# Altium schematic symbol library PiezoControlBoard.SchLib: 33 symbols (part 1 of 2)
Pins are listed as number, name and electrical type; pins without a type are passive.

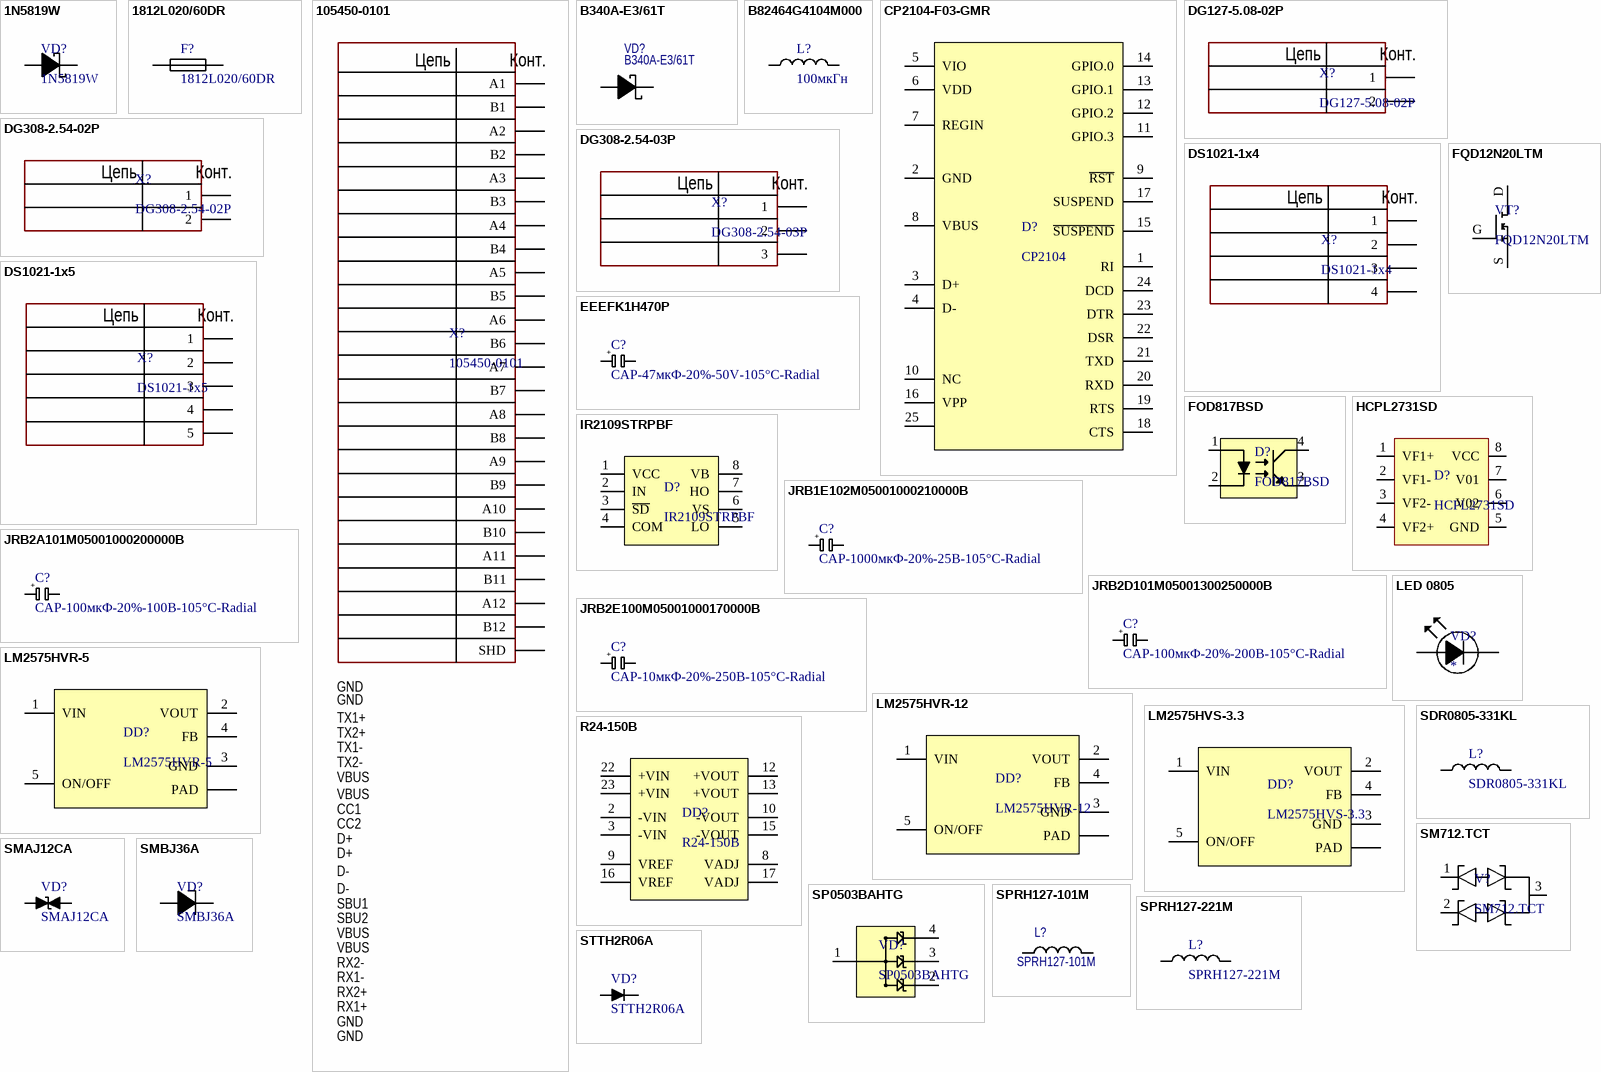
[diagram p0: symbols 1N5819W to STTH2R06A]

## 1N5819W
designator VD?
Диод Шоттки 40В 1А; Supplier 1: https://www.chipdip.ru/product/1n5819w
footprint SOD-123
pins: 1 A, 2 K

## 1812L020/60DR
designator F?
PTC Resettable Fuse 0.2A(hold) 0.4A(trip) 60VDC 40A 0.8W 0.02s 0.8Ohm SMD Solder Pad 1812 T/R; Manufacturer: Littelfuse; Approvals: TUV, cULus; Hold Current: 200mA; Maximum Resistance 1 Hour (R1max): 4.4Ω; Max Voltage Rating (DC): 30V; Minimum Resistance Initial (Rmin): 1.4Ω; Power Dissipation: 800mW; Time to Trip: 2s; Trip Current: 400mA; Working Voltage: 60V; Manufacturer Part Number: 1812L020/60DR; RoHS: Compliant; Category: PTC Resettable Fuses; Pricing 1: 1500=0,187, 3000=0,185, 6000=0,182, 22500=0,177 (USD); Case/Package: 1812; Case Code (Imperial): 1812; Case Code (Metric): 4532; Country of Origin: Taiwan; Export Control Classification Number (ECCN) Code: EAR99; Height: 1.25mm; Harmonized Tariff Schedule (HTS) Code: 8533.40.80.70; Introduction Date: 2012-08-07; Lead Free: Lead Free; Lifecycle Status: Production; Max Current Rating: 40A; Max Operating Temperature: 85°C; Min Operating Temperature: -40°C; Mount: Surface Mount; Number of Terminals: 2; Packaging: Tape & Reel (TR); REACH SVHC: Yes; Resistance: 1.4Ω; Termination: SMD/SMT; Width: 3.41mm; ComponentLink1URL: https://datasheet.octopart.com:443/1812L020-60DR-Littelfuse-datasheet-181956373.pdf?src-supplier=IHS; ComponentLink1Description: https://datasheet.octopart.com:443/1812L020-60DR-Littelfuse-datasheet-181956373.pdf?src-supplier=IHS; ComponentLink2URL: https://datasheet.octopart.com:443/1812L020-60DR-Littelfuse-datasheet-165518607.pdf?src-supplier=Farnell; ComponentLink2Description: https://datasheet.octopart.com:443/1812L020-60DR-Littelfuse-datasheet-165518607.pdf?src-supplier=Farnell; ComponentLink3URL: https://datasheet.octopart.com:443/1812L020-60DR-Littelfuse-datasheet-95953547.pdf?src-supplier=Farnell; ComponentLink3Description: https://datasheet.octopart.com:443/1812L020-60DR-Littelfuse-datasheet-95953547.pdf?src-supplier=Farnell; ComponentLink4URL: https://datasheet.octopart.com:443/1812L020-60DR-Littelfuse-datasheet-81917122.pdf?src-supplier=Farnell; ComponentLink4Description: https://datasheet.octopart.com:443/1812L020-60DR-Littelfuse-datasheet-81917122.pdf?src-supplier=Farnell; ComponentLink5URL: https://datasheet.octopart.com:443/1812L020-60DR-Littelfuse-datasheet-133510347.pdf?src-supplier=TME; ComponentLink5Description: https://datasheet.octopart.com:443/1812L020-60DR-Littelfuse-datasheet-133510347.pdf?src-supplier=TME; ComponentLink6URL: https://datasheet.octopart.com:443/1812L020-60DR-Littelfuse-datasheet-183575728.pdf?src-supplier=Sager+Electronics; ComponentLink6Description: https://datasheet.octopart.com:443/1812L020-60DR-Littelfuse-datasheet-183575728.pdf?src-supplier=Sager+Electronics; ComponentLink7URL: https://datasheet.octopart.com:443/1812L020-60DR-Littelfuse-datasheet-175882318.pdf?src-supplier=Sager+Electronics; ComponentLink7Description: https://datasheet.octopart.com:443/1812L020-60DR-Littelfuse-datasheet-175882318.pdf?src-supplier=Sager+Electronics; ComponentLink8URL: https://datasheet.octopart.com:443/1812L020-60DR-Littelfuse-datasheet-177174290.pdf?src-supplier=Burklin+Elektronik; ComponentLink8Description: https://datasheet.octopart.com:443/1812L020-60DR-Littelfuse-datasheet-177174290.pdf?src-supplier=Burklin+Elektronik; ComponentLink9URL: https://datasheet.octopart.com:443/1812L020-60DR-Littelfuse-datasheet-24577145.pdf?src-supplier=Future+Electronics; ComponentLink9Description: https://datasheet.octopart.com:443/1812L020-60DR-Littelfuse-datasheet-24577145.pdf?src-supplier=Future+Electronics; ComponentLink10URL: https://datasheet.octopart.com:443/1812L020-60DR-Littelfuse-datasheet-11773851.pdf?src-supplier=Fuses+Unlimited; ComponentLink10Description: https://datasheet.octopart.com:443/1812L020-60DR-Littelfuse-datasheet-11773851.pdf?src-supplier=Fuses+Unlimited; ComponentLink11URL: https://datasheet.octopart.com:443/1812L020-60DR-Littelfuse-datasheet-10288713.pdf?src-supplier=Fuses+Unlimited; ComponentLink11Description: https://datasheet.octopart.com:443/1812L020-60DR-Littelfuse-datasheet-10288713.pdf?src-supplier=Fuses+Unlimited; ComponentLink12URL: https://datasheet.octopart.com:443/1812L020-60DR-Littelfuse-datasheet-8764218.pdf?src-supplier=Fuses+Unlimited; ComponentLink12Description: https://datasheet.octopart.com:443/1812L020-60DR-Littelfuse-datasheet-8764218.pdf?src-supplier=Fuses+Unlimited; ComponentLink13URL: https://datasheet.octopart.com:443/1812L020-60DR-Littelfuse-datasheet-8701984.pdf?src-supplier=Fuses+Unlimited; ComponentLink13Description: https://datasheet.octopart.com:443/1812L020-60DR-Littelfuse-datasheet-8701984.pdf?src-supplier=Fuses+Unlimited; ComponentLink14URL: https://datasheet.octopart.com:443/1812L020-60DR-Littelfuse-datasheet-8499982.pdf?src-supplier=Fuses+Unlimited; ComponentLink14Description: https://datasheet.octopart.com:443/1812L020-60DR-Littelfuse-datasheet-8499982.pdf?src-supplier=Fuses+Unlimited; ComponentLink15URL: https://datasheet.octopart.com:443/1812L020-60DR-Littelfuse-datasheet-8330599.pdf?src-supplier=Fuses+Unlimited; ComponentLink15Description: https://datasheet.octopart.com:443/1812L020-60DR-Littelfuse-datasheet-8330599.pdf?src-supplier=Fuses+Unlimited; ComponentLink16URL: https://datasheet.octopart.com:443/1812L020-60DR-Littelfuse-datasheet-560439.pdf?src-supplier=Fuses+Unlimited; ComponentLink16Description: https://datasheet.octopart.com:443/1812L020-60DR-Littelfuse-datasheet-560439.pdf?src-supplier=Fuses+Unlimited; Supplier Part Number 1: 9134053; Supplier 1: https://www.chipdip.ru/product/1812l020-60dr-0.2a-60v-predohranitel-littelfuse-9000254948?from=similar_product_auto; Supplier: Future Electronics
footprint SMD-1812
pins: 1, 2

## 105450-0101
designator X?  B12: GND  B11: RX1+  A11: RX2+  B10: RX1-  A10: RX2-  B9: VBUS  B8: SBU2  A8: SBU1  B7: D-  B6: D+  B5: CC2  A5: CC1  B3: TX2-  A3: TX1-  B2: TX2+  A2: TX1+
USB Connector, 24 Contact(s), Female, Right Angle, Surface Mount Terminal, Receptacle; Manufacturer: Molex; Plating: 157ConductorMaterial; Number of Contacts: 24; Number of Ports: 1; USB Standard: USB 3.1; Mating Cycles: 10000; Shielding: Shielded; Number of Circuits: 24NUMBER; Voltage Rating: 30V; Pitch: 0.5mm; Supplier: Mouser; Supplier Part Number: 538-105450-0101; Manufacturer Part Number: 105450-0101; RoHS: Yes; Category: USB Connectors; Stock: 17652; Pricing: 1=2,38, 10=2,03, 50=2,03, 100=1,79, 1000=1,67, 10000=1,41 (USD); Mounting Technology: Surface Mount,Horizontal,Through Hole; Case/Package: 0101; Pins: 24; Contact Material: Copper Alloy; Contact Plating: Gold; Housing Material: Thermoplastic; Insulation Color: Black; Min Operating Temperature: -30°C; Max Operating Temperature: 85°C; Packaging: Tape and Reel; Connector Type: USB; Gender: Receptacle; Orientation: Right Angle; Termination: Solder; Features: Shielded; Series: -; Number of Rows: 2NUMBER; Length: 8.94mm; Height: 3.44mm; Flammability Rating: UL94 V-0; RoHS Compliant: Yes; Reach SVHC Compliant: Unknown; ComponentLink1URL: http://www.farnell.com/datasheets/2801634.pdf?src-supplier=Farnell; ComponentLink1Description: http://www.farnell.com/datasheets/2801634.pdf?src-supplier=Farnell; ComponentLink2URL: http://www.farnell.com/datasheets/2801634.pdf?src-supplier=Newark; ComponentLink2Description: http://www.farnell.com/datasheets/2801634.pdf?src-supplier=Newark; ComponentLink3URL: http://www.literature.molex.com/SQLImages/kelmscott/Molex/PDF_Images/987651-4081.PDF?src-supplier=Avnet; ComponentLink3Description: http://www.literature.molex.com/SQLImages/kelmscott/Molex/PDF_Images/987651-4081.PDF?src-supplier=Avnet; ComponentLink4URL: http://www.farnell.com/datasheets/2015275.pdf?src-supplier=Element14; ComponentLink4Description: http://www.farnell.com/datasheets/2015275.pdf?src-supplier=Element14; ComponentLink5URL: http://www.farnell.com/datasheets/2801634.pdf?src-supplier=Element14; ComponentLink5Description: http://www.farnell.com/datasheets/2801634.pdf?src-supplier=Element14; ComponentLink6URL: http://www.farnell.com/datasheets/2672741.pdf?src-supplier=Newark; ComponentLink6Description: http://www.farnell.com/datasheets/2672741.pdf?src-supplier=Newark; Supplier 1: https://www.chipdip.ru/product/105450-0101-molex; A12: GND; A9: VBUS; A7: D-; A6: D+; B4: VBUS; A4: VBUS; B1: GND; A1: GND
footprint USB-C
pins: 2 B2, A1, A2, A3, A4, A5, A6, A7, A8, A9, A10, A11, A12, B1, B3, B4, B5, B6, B7, B8, B9, B10, B11, B12, SHD
text: Цепь; Конт.

## B340A-E3/61T
designator VD?
Rectifier Diode, Schottky, 1 Phase, 1 Element, 3A, 40V V(RRM), Silicon, DO-214AC; Manufacturer: Vishay Semiconductors; Supplier: Avnet; Supplier Part Number: B340A-E3/61T; Manufacturer Part Number: B340A-E3/61T; RoHS: Yes; Category: Rectifier Diodes; Stock: 19800; Pricing: 3600=0,11, 7200=0,10732, 10800=0,10602, 18000=0,10476, 36000=0,10353 (USD); ComponentLink1URL: https://datasheet.ciiva.com/22685/1719678-22685665.pdf?src-supplier=Element14; ComponentLink1Description: https://datasheet.ciiva.com/22685/1719678-22685665.pdf?src-supplier=Element14; ComponentLink2URL: https://datasheet.ciiva.com/4245/b330la-4245394.pdf?src-supplier=Arrow+Electronics; ComponentLink2Description: https://datasheet.ciiva.com/4245/b330la-4245394.pdf?src-supplier=Arrow+Electronics; ComponentLink3URL: https://datasheet.ciiva.com/911/b330la-911044.pdf?src-supplier=Digikey; ComponentLink3Description: https://datasheet.ciiva.com/911/b330la-911044.pdf?src-supplier=Digikey; ComponentLink4URL: https://datasheet.ciiva.com/911/b330la-911045.pdf?src-supplier=Digikey; ComponentLink4Description: https://datasheet.ciiva.com/911/b330la-911045.pdf?src-supplier=Digikey; ComponentLink5URL: https://datasheet.ciiva.com/911/b330la-911046.pdf?src-supplier=Digikey; ComponentLink5Description: https://datasheet.ciiva.com/911/b330la-911046.pdf?src-supplier=Digikey; Supplier 1: https://www.chipdip.ru/product/b340a-e3-61t-2?from=suggest_product
footprint DO-214AC
pins: A, C

## B82464G4104M000
designator L?, comment 100мкГн
Inductor Power Shielded Wirewound 100uH 20% 100KHz Ferrite 1.05A 0.22Ohm DCR Automotive T/R; Manufacturer: EPCOS; Manufacturer Part Number: B82464G4104M000; DC Resistance (DCR): 220mΩ; Inductance: 100µH; Number of Circuits: 1; Saturation Current: 1.15A; Self Resonant Frequency: 6.5MHz; RoHS: Compliant; Category: Fixed Inductors; Stock 1: 363; Pricing 1: 1=1,09 (GBP); Case/Package: SMD/SMT; China RoHS: Compliant; Contact Plating: Tin; Core Material: Ferrite; Country of Origin: Germany; DC Current: 1.05A; Depth: 10.4mm; Export Control Classification Number (ECCN) Code: EAR99; Height: 4.8mm; Harmonized Tariff Schedule (HTS) Code: 8504.50.80.00; Inductance Tolerance: 20%; Introduction Date: 2002-08-13; Lead Free: Lead Free; Length: 10.4mm; Lifecycle Status: EOL; Max Current Rating: 1.05A; Max DC Current: 1.05A; Max Length: 10.4mm; Max Operating Temperature: 125°C; Max Width: 10.4mm; Military Standard: Not; Min Operating Temperature: -55°C; Mount: Surface Mount; Number of Pins: 2; Number of Terminals: 2; Packaging: Cut Tape; REACH SVHC: Yes; Resistance: 220mΩ; RMS Current (Irms): 1.05A; Schedule B: 8504500000, 8504500000|8504500000|8504500000|8504500000|8504500000; Test Frequency: 100kHz; Tolerance: 20%; Width: 10.4mm; ComponentLink1URL: https://datasheet.octopart.com:443/B82464G4104M000-EPCOS-datasheet-138895962.pdf?src-supplier=IHS; ComponentLink1Description: https://datasheet.octopart.com:443/B82464G4104M000-EPCOS-datasheet-138895962.pdf?src-supplier=IHS; ComponentLink2URL: https://datasheet.octopart.com:443/B82464G4104M000-EPCOS-datasheet-12510517.pdf?src-supplier=Newark; ComponentLink2Description: https://datasheet.octopart.com:443/B82464G4104M000-EPCOS-datasheet-12510517.pdf?src-supplier=Newark; ComponentLink3URL: https://datasheet.octopart.com:443/B82464G4104M000-EPCOS-datasheet-10671.pdf?src-supplier=Newark; ComponentLink3Description: https://datasheet.octopart.com:443/B82464G4104M000-EPCOS-datasheet-10671.pdf?src-supplier=Newark; ComponentLink4URL: https://datasheet.octopart.com:443/B82464G4104M000-EPCOS-datasheet-8324944.pdf?src-supplier=Future+Electronics; ComponentLink4Description: https://datasheet.octopart.com:443/B82464G4104M000-EPCOS-datasheet-8324944.pdf?src-supplier=Future+Electronics; ComponentLink5URL: https://datasheet.octopart.com:443/B82464G4104M000-EPCOS-datasheet-47871567.pdf?src-supplier=Future+Electronics; ComponentLink5Description: https://datasheet.octopart.com:443/B82464G4104M000-EPCOS-datasheet-47871567.pdf?src-supplier=Future+Electronics; ComponentLink6URL: https://datasheet.octopart.com:443/B82464G4104M000-EPCOS-datasheet-38579530.pdf?src-supplier=element14+APAC; ComponentLink6Description: https://datasheet.octopart.com:443/B82464G4104M000-EPCOS-datasheet-38579530.pdf?src-supplier=element14+APAC; ComponentLink7URL: https://datasheet.octopart.com:443/B82464G4104M-EPCOS-datasheet-714.pdf?src-supplier=TME; ComponentLink7Description: https://datasheet.octopart.com:443/B82464G4104M-EPCOS-datasheet-714.pdf?src-supplier=TME; ComponentLink8URL: https://datasheet.octopart.com:443/B82464G4104M-EPCOS-datasheet-519163.pdf?src-supplier=Farnell; ComponentLink8Description: https://datasheet.octopart.com:443/B82464G4104M-EPCOS-datasheet-519163.pdf?src-supplier=Farnell; ComponentLink9URL: https://datasheet.octopart.com:443/B82464G4104M-EPCOS-datasheet-499776.pdf?src-supplier=Farnell; ComponentLink9Description: https://datasheet.octopart.com:443/B82464G4104M-EPCOS-datasheet-499776.pdf?src-supplier=Farnell; ComponentLink10URL: https://datasheet.octopart.com:443/B82464-G4104-M-EPCOS-datasheet-550296.pdf?src-supplier=Verical; ComponentLink10Description: https://datasheet.octopart.com:443/B82464-G4104-M-EPCOS-datasheet-550296.pdf?src-supplier=Verical; Supplier Part Number 1: 4960669; Supplier 1: https://www.chipdip.ru/product/b82464g4104m-100mkgn-1.05a-10x10-katushka-epcos-759264303?from=visited_product; Supplier: RS
footprint IND_10.4X10.4
pins: 1, 2

## CP2104-F03-GMR
designator D?, comment CP2104
Interface IC full speed basic USB type-C controller USB 2.0 3.3V, CP2104-F03-GMR, WFQFN-24; Manufacturer: Silicon Labs; Supplier: Mouser; Supplier Part Number: 634-CP2104-F03-GMR; Manufacturer Part Number: CP2104-F03-GMR; RoHS: Yes; Category: Interface ICs; Stock: 2589; Pricing: 1=5,43, 10=4,87, 50=4,87, 100=3,99, 1000=2,87, 10000=2,62 (USD); Height: 800um; ComponentLink1URL: https://datasheet.ciiva.com/14939/cp2104-14939979.pdf?src-supplier=Digikey; ComponentLink1Description: https://datasheet.ciiva.com/14939/cp2104-14939979.pdf?src-supplier=Digikey; ComponentLink2URL: https://datasheet.ciiva.com/15150/getdatasheetpartid-711722-15150533.pdf?src-supplier=Verical; ComponentLink2Description: https://datasheet.ciiva.com/15150/getdatasheetpartid-711722-15150533.pdf?src-supplier=Verical; Supplier 1: https://www.chipdip.ru/product0/8023203867
footprint QFN-24
pins: 1 RI, 2 GND, 3 D+, 4 D-, 5 VIO, 6 VDD, 7 REGIN, 8 VBUS, 9 ~{RST}, 10 NC, 11 GPIO.3, 12 GPIO.2, 13 GPIO.1, 14 GPIO.0, 15 ~{SUSPEND}, 16 VPP, 17 SUSPEND, 18 CTS, 19 RTS, 20 RXD, 21 TXD, 22 DSR, 23 DTR, 24 DCD, 25

## DG127-5.08-02P
designator X?
Terminal block DG127-5.08-02P-14-00AH, 2-ways, vertical, 5.08mm, screw (-), green, max wire 1.5mm2, RoHS; Supplier 1: https://www.chipdip.ru/product0/8001774499
footprint DG12750802P141000AH
pins: 1, 2
text: Цепь; Конт.

## DG308-2.54-02P
designator X?
Клеммник 2 конт. шаг 2.54 мм, вертик. на плату, H = 8.5 мм, провод под винт/микролифт (пров. 26-18AWG/ до 1.0 кв.мм), до 150В/6А, зеленый изол.; Supplier 1: https://www.chipdip.ru/product/dg308-2.54-02p-14-00ah-308-021-14-klemmnik-vintovoy-degson-63066?from=visited_product; Curciut 2: *; Curciut 1: *
footprint DG30825402P1400AH
pins: 1, 2
text: Цепь; Конт.

## DG308-2.54-03P
designator X?
Клеммник 3 конт. шаг 2.54 мм, вертик. на плату, H = 8.5 мм, провод под винт/микролифт (пров. 26-18AWG/ до 1.0 кв.мм), до 150В/6А, зеленый изол.; Supplier 1: https://www.chipdip.ru/product/308-031-14-dg308-2.54-03p-klemmnik-vintovoy-xinya-xinlaiya-10706; Curciut 3: *; Curciut 2: *; Curciut 1: *
footprint DG30825403P1400AH
pins: 1, 2, 3
text: Цепь; Конт.

## DS1021-1x4
designator X?
Штыри однорядные 1x4 конт. шаг 2.54 мм; Supplier 1: https://www.chipdip.ru/product/pls-4
footprint DS1021-1x4
pins: 1, 2, 3, 4
text: Цепь; Конт.

## DS1021-1x5
designator X?
Штыри однорядные 1x5 конт. шаг 2.54 мм; Supplier 1: https://www.chipdip.ru/product/pls-5
footprint DS1021-1x5
pins: 1, 2, 3, 4, 5
text: Цепь; Конт.

## EEEFK1H470P
designator C?, comment CAP-47мкФ-20%-50V-105°C-Radial
SMD Aluminum Electrolytic Capacitor SMD, D8xL6.2mm 47µF ±20% 50V 2000Hrs@105℃; Manufacturer: Panasonic; Manufacturer Part Number: EEEFK1H470P; Manufacturer Lifecycle Status: ACTIVE; Part Series: FK; Value: 47мкФ; Dielectric Material: Aluminium; Dissipation Factor: 10%; ESR (Equivalent Series Resistance): 680mΩ; Leakage Current: 23.5µA; Life (Hours): 2000hours; Ripple Current: 195mA; RoHS: Compliant; Category: Aluminum Electrolytic Capacitors; Stock 1: 2345; Pricing 1: 50=0,54, 100=0,504, 250=0,472, 500=0,426 (GBP); Case/Package: Radial; Diameter: 8mm; Height: 6.2mm; Height - Seated (Max): 6.1976mm; Impedance: 680mΩ; Lead Free: Lead Free; Length: 6.2mm; Lifecycle Status: Production; Material: Aluminium; Temperature: 105°C; Min Operating Temperature: -55°C; Mount: Surface Mount; Number of Pins: 2; Number of Terminals: 2; Packaging: Cut Tape; Radiation Hardening: No; REACH SVHC: Yes; Ripple Current (AC): 195mA; Schedule B: 8532220020, 8532220020|8532220020|8532220020|8532220020|8532220020; Termination: SMD/SMT; Tolerance: 20%; Voltage: 50V; Voltage Rating: 50V; Voltage Rating (AC): 50V; Voltage Rating (DC): 50V; Width: 8.3mm; ComponentLink1URL: https://datasheet.octopart.com:443/EEEFK1H470P-Panasonic-datasheet-169278531.pdf?src-supplier=IHS; ComponentLink1Description: https://datasheet.octopart.com:443/EEEFK1H470P-Panasonic-datasheet-169278531.pdf?src-supplier=IHS; ComponentLink2URL: https://datasheet.octopart.com:443/EEEFK1H470P-Panasonic-datasheet-62287436.pdf?src-supplier=Megastar; ComponentLink2Description: https://datasheet.octopart.com:443/EEEFK1H470P-Panasonic-datasheet-62287436.pdf?src-supplier=Megastar; ComponentLink3URL: https://datasheet.octopart.com:443/EEEFK1H470P-Panasonic-datasheet-61627622.pdf?src-supplier=Newark; ComponentLink3Description: https://datasheet.octopart.com:443/EEEFK1H470P-Panasonic-datasheet-61627622.pdf?src-supplier=Newark; ComponentLink4URL: https://datasheet.octopart.com:443/EEEFK1H470P-Panasonic-datasheet-8161.pdf?src-supplier=Newark; ComponentLink4Description: https://datasheet.octopart.com:443/EEEFK1H470P-Panasonic-datasheet-8161.pdf?src-supplier=Newark; ComponentLink5URL: https://datasheet.octopart.com:443/EEEFK1H470P-Panasonic-datasheet-8852369.pdf?src-supplier=Newark; ComponentLink5Description: https://datasheet.octopart.com:443/EEEFK1H470P-Panasonic-datasheet-8852369.pdf?src-supplier=Newark; ComponentLink6URL: https://datasheet.octopart.com:443/EEEFK1H470P-Panasonic-datasheet-8712906.pdf?src-supplier=Newark; ComponentLink6Description: https://datasheet.octopart.com:443/EEEFK1H470P-Panasonic-datasheet-8712906.pdf?src-supplier=Newark; ComponentLink7URL: https://datasheet.octopart.com:443/EEEFK1H470P-Panasonic-datasheet-13278598.pdf?src-supplier=Newark; ComponentLink7Description: https://datasheet.octopart.com:443/EEEFK1H470P-Panasonic-datasheet-13278598.pdf?src-supplier=Newark; ComponentLink8URL: https://datasheet.octopart.com:443/EEE-FK1H470P.-Panasonic-datasheet-182428881.pdf?src-supplier=Newark; ComponentLink8Description: https://datasheet.octopart.com:443/EEE-FK1H470P.-Panasonic-datasheet-182428881.pdf?src-supplier=Newark; ComponentLink9URL: https://datasheet.octopart.com:443/EEE-FK1H470P-Panasonic-datasheet-22087609.pdf?src-supplier=Newark; ComponentLink9Description: https://datasheet.octopart.com:443/EEE-FK1H470P-Panasonic-datasheet-22087609.pdf?src-supplier=Newark; ComponentLink10URL: https://datasheet.octopart.com:443/EEEFK1H470P-Panasonic-datasheet-13266987.pdf?src-supplier=RS+(Formerly+Allied+Electronics); ComponentLink10Description: https://datasheet.octopart.com:443/EEEFK1H470P-Panasonic-datasheet-13266987.pdf?src-supplier=RS+(Formerly+Allied+Electronics); ComponentLink11URL: https://datasheet.octopart.com:443/EEEFK1H470P-Panasonic-datasheet-11546739.pdf?src-supplier=Electro+Sonic; ComponentLink11Description: https://datasheet.octopart.com:443/EEEFK1H470P-Panasonic-datasheet-11546739.pdf?src-supplier=Electro+Sonic; ComponentLink12URL: https://datasheet.octopart.com:443/EEEFK1H470P-Panasonic-datasheet-8854493.pdf?src-supplier=Future+Electronics; ComponentLink12Description: https://datasheet.octopart.com:443/EEEFK1H470P-Panasonic-datasheet-8854493.pdf?src-supplier=Future+Electronics; ComponentLink13URL: https://datasheet.octopart.com:443/EEEFK1H470P-Panasonic-datasheet-8711795.pdf?src-supplier=Future+Electronics; ComponentLink13Description: https://datasheet.octopart.com:443/EEEFK1H470P-Panasonic-datasheet-8711795.pdf?src-supplier=Future+Electronics; ComponentLink14URL: https://datasheet.octopart.com:443/EEEFK1H470P-Panasonic-datasheet-5313801.pdf?src-supplier=Future+Electronics; ComponentLink14Description: https://datasheet.octopart.com:443/EEEFK1H470P-Panasonic-datasheet-5313801.pdf?src-supplier=Future+Electronics; ComponentLink15URL: https://datasheet.octopart.com:443/EEE-FK1H470P-Panasonic-datasheet-68301693.pdf?src-supplier=Future+Electronics; ComponentLink15Description: https://datasheet.octopart.com:443/EEE-FK1H470P-Panasonic-datasheet-68301693.pdf?src-supplier=Future+Electronics; ComponentLink16URL: https://datasheet.octopart.com:443/EEE-FK1H470P-Panasonic-datasheet-150469824.pdf?src-supplier=Master+Electronics; ComponentLink16Description: https://datasheet.octopart.com:443/EEE-FK1H470P-Panasonic-datasheet-150469824.pdf?src-supplier=Master+Electronics; ComponentLink17URL: https://datasheet.octopart.com:443/EEEFK1H470P-Panasonic-datasheet-7555708.pdf?src-supplier=Jameco; ComponentLink17Description: https://datasheet.octopart.com:443/EEEFK1H470P-Panasonic-datasheet-7555708.pdf?src-supplier=Jameco; ComponentLink18URL: https://sigma.octopart.com:443/150570760/technical_drawing/Panasonic-EEEFK1H470P.pdf?src-supplier=Panasonic+SCT; ComponentLink18Description: https://sigma.octopart.com:443/150570760/technical_drawing/Panasonic-EEEFK1H470P.pdf?src-supplier=Panasonic+SCT; ComponentLink19URL: https://datasheet.octopart.com:443/EEEFK1H470P-Panasonic-datasheet-136531309.pdf?src-supplier=TME; ComponentLink19Description: https://datasheet.octopart.com:443/EEEFK1H470P-Panasonic-datasheet-136531309.pdf?src-supplier=TME; ComponentLink20URL: https://datasheet.octopart.com:443/EEEFK1H470P-Panasonic-datasheet-5318435.pdf?src-supplier=Farnell; ComponentLink20Description: https://datasheet.octopart.com:443/EEEFK1H470P-Panasonic-datasheet-5318435.pdf?src-supplier=Farnell; ComponentLink21URL: https://datasheet.octopart.com:443/EEEFK1H470P-Panasonic-datasheet-5316599.pdf?src-supplier=Farnell; ComponentLink21Description: https://datasheet.octopart.com:443/EEEFK1H470P-Panasonic-datasheet-5316599.pdf?src-supplier=Farnell; ComponentLink22URL: https://datasheet.octopart.com:443/EEEFK1H470P-Panasonic-datasheet-5390910.pdf?src-supplier=Farnell; ComponentLink22Description: https://datasheet.octopart.com:443/EEEFK1H470P-Panasonic-datasheet-5390910.pdf?src-supplier=Farnell; ComponentLink23URL: https://datasheet.octopart.com:443/EEEFK1H470P-Panasonic-datasheet-7550061.pdf?src-supplier=Farnell; ComponentLink23Description: https://datasheet.octopart.com:443/EEEFK1H470P-Panasonic-datasheet-7550061.pdf?src-supplier=Farnell; ComponentLink24URL: https://datasheet.octopart.com:443/EEEFK1H470P-Panasonic-datasheet-1770.pdf?src-supplier=Farnell; ComponentLink24Description: https://datasheet.octopart.com:443/EEEFK1H470P-Panasonic-datasheet-1770.pdf?src-supplier=Farnell; ComponentLink25URL: https://datasheet.octopart.com:443/EEEFK1H470P-Panasonic-datasheet-1290.pdf?src-supplier=Farnell; ComponentLink25Description: https://datasheet.octopart.com:443/EEEFK1H470P-Panasonic-datasheet-1290.pdf?src-supplier=Farnell; ComponentLink26URL: https://datasheet.octopart.com:443/EEEFK1H470P-Panasonic-datasheet-2601.pdf?src-supplier=Farnell; ComponentLink26Description: https://datasheet.octopart.com:443/EEEFK1H470P-Panasonic-datasheet-2601.pdf?src-supplier=Farnell; ComponentLink27URL: https://datasheet.octopart.com:443/EEEFK1H470P-Panasonic-datasheet-122249.pdf?src-supplier=Farnell; ComponentLink27Description: https://datasheet.octopart.com:443/EEEFK1H470P-Panasonic-datasheet-122249.pdf?src-supplier=Farnell; ComponentLink28URL: https://datasheet.octopart.com:443/EEEFK1H470P-Panasonic-datasheet-4056.pdf?src-supplier=Farnell; ComponentLink28Description: https://datasheet.octopart.com:443/EEEFK1H470P-Panasonic-datasheet-4056.pdf?src-supplier=Farnell; Supplier: RS; Supplier 1: https://www.chipdip.ru/product/ecap-smd-47mkf-50v-105-s-8-6.2mm-eeefk1h470p-panasonic-9000196819; Supplier Part Number 1: 5370590P
footprint ECAP_SMD_8.0x6.2
pins: 1, 2
text: +

## FOD817BSD
designator D?
Optocoupler, Transistor Output, 1 Channel, Surface Mount DIP, 4 Pins, 50 mA, 5 kV, 130 %; Manufacturer: onsemi; Manufacturer Lifecycle Status: ACTIVE; Collector Emitter Breakdown Voltage: 70V; Collector Emitter Saturation Voltage: 200mV; Current Transfer Ratio: 130%; Dark Current: 100nA; Fall Time: 18µs; Forward Current: 50mA; Forward Voltage: 1.4V; Isolation Voltage: 5kV; Max Junction Temperature (Tj): 125°C; Max Power Dissipation: 150mW; Number of Channels: 1; Power Dissipation: 200mW; Reverse Breakdown Voltage: 6V; Supplier: Future Electronics; Supplier Part Number: 1190577; Manufacturer Part Number: FOD817BSD; RoHS: Compliant; Category: Optocouplers; Stock: 578000; Pricing: 1000=0,0878, 3000=0,0853, 4000=0,0847, 10000=0,0827, 15000=0,0807 (USD); Case/Package: SMD/SMT; China RoHS: Compliant; Collector Emitter Voltage (VCEO): 70V; Contact Plating: Tin; Country of Origin: Thailand; Export Control Classification Number (ECCN) Code: EAR99; Height: 4.35mm; Harmonized Tariff Schedule (HTS) Code: 8541.40.80.00; Input Current: 50mA; Introduction Date: 2004-04-28; Lead Free: Lead Free; Length: 5.1mm; Lifecycle Status: Production; Max Collector Current: 50mA; Max Input Current: 50mA; Max Operating Temperature: 110°C; Max Output Voltage: 70V; Min Operating Temperature: -55°C; Mounting Technology: Surface Mount; Number of Circuits: 1; Number of Elements: 1; Pins: 4; Output Current per Channel: 50mA; Output Voltage: 70V; Radiation Hardening: No; REACH SVHC: Yes; Reverse Voltage: 6V; Reverse Voltage (DC): 6V; Rise Time: 18µs; Schedule B: 8541408000, 8541408000|8541408000, 8541408000|8541408000|8541408000, 8541408000|8541408000|8541408000|8541408000; Weight: 0g; Width: 7mm; ComponentLink1URL: https://datasheet.octopart.com:443/FOD817BSD-onsemi-datasheet-180960478.pdf?src-supplier=IHS; ComponentLink1Description: https://datasheet.octopart.com:443/FOD817BSD-onsemi-datasheet-180960478.pdf?src-supplier=IHS; ComponentLink2URL: https://datasheet.octopart.com:443/FOD817BSD-Fairchild-Semiconductor-datasheet-67010145.pdf?src-supplier=IHS; ComponentLink2Description: https://datasheet.octopart.com:443/FOD817BSD-Fairchild-Semiconductor-datasheet-67010145.pdf?src-supplier=IHS; ComponentLink3URL: https://datasheet.octopart.com:443/FOD817BSD-ON-Semiconductor-datasheet-113093828.pdf?src-supplier=JRH+Electronics; ComponentLink3Description: https://datasheet.octopart.com:443/FOD817BSD-ON-Semiconductor-datasheet-113093828.pdf?src-supplier=JRH+Electronics; ComponentLink4URL: https://sigma.octopart.com:443/138799925/technical_drawing/ON-Semiconductor-FOD817BSD.pdf?src-supplier=Upverter; ComponentLink4Description: https://sigma.octopart.com:443/138799925/technical_drawing/ON-Semiconductor-FOD817BSD.pdf?src-supplier=Upverter; ComponentLink5URL: https://datasheet.octopart.com:443/FOD817BSD-ON-Semiconductor-datasheet-11629806.pdf?src-supplier=TME; ComponentLink5Description: https://datasheet.octopart.com:443/FOD817BSD-ON-Semiconductor-datasheet-11629806.pdf?src-supplier=TME; ComponentLink6URL: https://datasheet.octopart.com:443/FOD817BSD-onsemi-datasheet-188912653.pdf?src-supplier=TME; ComponentLink6Description: https://datasheet.octopart.com:443/FOD817BSD-onsemi-datasheet-188912653.pdf?src-supplier=TME; ComponentLink7URL: https://datasheet.octopart.com:443/FOD817BSD-ON-Semiconductor-datasheet-99207756.pdf?src-supplier=Future+Electronics; ComponentLink7Description: https://datasheet.octopart.com:443/FOD817BSD-ON-Semiconductor-datasheet-99207756.pdf?src-supplier=Future+Electronics; ComponentLink8URL: https://datasheet.octopart.com:443/FOD817BSD-Fairchild-Semiconductor-datasheet-8324556.pdf?src-supplier=Future+Electronics; ComponentLink8Description: https://datasheet.octopart.com:443/FOD817BSD-Fairchild-Semiconductor-datasheet-8324556.pdf?src-supplier=Future+Electronics; ComponentLink9URL: https://datasheet.octopart.com:443/FOD817BSD-ON-Semiconductor-datasheet-98551328.pdf?src-supplier=onsemi; ComponentLink9Description: https://datasheet.octopart.com:443/FOD817BSD-ON-Semiconductor-datasheet-98551328.pdf?src-supplier=onsemi; ComponentLink10URL: https://datasheet.octopart.com:443/FOD817BSD-ON-Semiconductor-datasheet-85522120.pdf?src-supplier=onsemi; ComponentLink10Description: https://datasheet.octopart.com:443/FOD817BSD-ON-Semiconductor-datasheet-85522120.pdf?src-supplier=onsemi; ComponentLink11URL: https://datasheet.octopart.com:443/FOD817BSD-ON-Semiconductor-datasheet-86695365.pdf?src-supplier=onsemi; ComponentLink11Description: https://datasheet.octopart.com:443/FOD817BSD-ON-Semiconductor-datasheet-86695365.pdf?src-supplier=onsemi; ComponentLink12URL: https://datasheet.octopart.com:443/FOD817BSD-ON-Semiconductor-datasheet-86689748.pdf?src-supplier=element14+APAC; ComponentLink12Description: https://datasheet.octopart.com:443/FOD817BSD-ON-Semiconductor-datasheet-86689748.pdf?src-supplier=element14+APAC; ComponentLink13URL: https://datasheet.octopart.com:443/FOD817BSD-Fairchild-datasheet-2482.pdf?src-supplier=Mouser; ComponentLink13Description: https://datasheet.octopart.com:443/FOD817BSD-Fairchild-datasheet-2482.pdf?src-supplier=Mouser; ComponentLink14URL: https://datasheet.octopart.com:443/FOD817BSD-Fairchild-Semiconductor-datasheet-49579151.pdf?src-supplier=Newark; ComponentLink14Description: https://datasheet.octopart.com:443/FOD817BSD-Fairchild-Semiconductor-datasheet-49579151.pdf?src-supplier=Newark; ComponentLink15URL: https://datasheet.octopart.com:443/FOD817BSD-ON-Semiconductor-datasheet-91365929.pdf?src-supplier=Newark; ComponentLink15Description: https://datasheet.octopart.com:443/FOD817BSD-ON-Semiconductor-datasheet-91365929.pdf?src-supplier=Newark; ComponentLink16URL: https://datasheet.octopart.com:443/FOD817BSD-onsemi-datasheet-189128609.pdf?src-supplier=Master+Electronics; ComponentLink16Description: https://datasheet.octopart.com:443/FOD817BSD-onsemi-datasheet-189128609.pdf?src-supplier=Master+Electronics; ComponentLink17URL: https://sigma.octopart.com:443/33167772/technical_drawing/Fairchild-Semiconductor-FOD817BSD.pdf?src-supplier=Fairchild+Semiconductor; ComponentLink17Description: https://sigma.octopart.com:443/33167772/technical_drawing/Fairchild-Semiconductor-FOD817BSD.pdf?src-supplier=Fairchild+Semiconductor; ComponentLink18URL: https://sigma.octopart.com:443/17350082/technical_drawing/Fairchild-Semiconductor-FOD817BSD.pdf?src-supplier=Fairchild+Semiconductor; ComponentLink18Description: https://sigma.octopart.com:443/17350082/technical_drawing/Fairchild-Semiconductor-FOD817BSD.pdf?src-supplier=Fairchild+Semiconductor; ComponentLink19URL: https://datasheet.octopart.com:443/FOD817BSD-Fairchild-datasheet-8637997.pdf?src-supplier=Jameco; ComponentLink19Description: https://datasheet.octopart.com:443/FOD817BSD-Fairchild-datasheet-8637997.pdf?src-supplier=Jameco; ComponentLink20URL: https://datasheet.octopart.com:443/FOD817BSD-Fairchild-Semiconductor-datasheet-61452342.pdf?src-supplier=Farnell; ComponentLink20Description: https://datasheet.octopart.com:443/FOD817BSD-Fairchild-Semiconductor-datasheet-61452342.pdf?src-supplier=Farnell; ComponentLink21URL: https://datasheet.octopart.com:443/FOD817BSD-Fairchild-Semiconductor-datasheet-62114928.pdf?src-supplier=Farnell; ComponentLink21Description: https://datasheet.octopart.com:443/FOD817BSD-Fairchild-Semiconductor-datasheet-62114928.pdf?src-supplier=Farnell; ComponentLink22URL: http://sigma.octopart.com:80/150610482/rohs_statement/ON-Semiconductor-FOD817BSD.pdf?src-supplier=Compliance+Statements; ComponentLink22Description: http://sigma.octopart.com:80/150610482/rohs_statement/ON-Semiconductor-FOD817BSD.pdf?src-supplier=Compliance+Statements; ComponentLink23URL: http://sigma.octopart.com:80/17350094/reach_statement/Fairchild-Semiconductor-FOD817BSD.pdf?src-supplier=Compliance+Statements; ComponentLink23Description: http://sigma.octopart.com:80/17350094/reach_statement/Fairchild-Semiconductor-FOD817BSD.pdf?src-supplier=Compliance+Statements; ComponentLink24URL: http://sigma.octopart.com:80/17350098/materials_sheet/Fairchild-Semiconductor-FOD817BSD.pdf?src-supplier=Compliance+Statements; ComponentLink24Description: http://sigma.octopart.com:80/17350098/materials_sheet/Fairchild-Semiconductor-FOD817BSD.pdf?src-supplier=Compliance+Statements; ComponentLink25URL: http://sigma.octopart.com:80/33167956/reach_statement/Fairchild-Semiconductor-FOD817BSD.pdf?src-supplier=Compliance+Statements; ComponentLink25Description: http://sigma.octopart.com:80/33167956/reach_statement/Fairchild-Semiconductor-FOD817BSD.pdf?src-supplier=Compliance+Statements; ComponentLink26URL: http://sigma.octopart.com:80/33167957/materials_sheet/Fairchild-Semiconductor-FOD817BSD.pdf?src-supplier=Compliance+Statements; ComponentLink26Description: http://sigma.octopart.com:80/33167957/materials_sheet/Fairchild-Semiconductor-FOD817BSD.pdf?src-supplier=Compliance+Statements; ComponentLink27URL: http://sigma.octopart.com:80/reach_statement/ON-Semiconductor-company-79.pdf?src-supplier=Compliance+Statements; ComponentLink27Description: http://sigma.octopart.com:80/reach_statement/ON-Semiconductor-company-79.pdf?src-supplier=Compliance+Statements; ComponentLink28URL: http://sigma.octopart.com:80/rohs_statement/Fairchild-Semiconductor-company-11.pdf?src-supplier=Compliance+Statements; ComponentLink28Description: http://sigma.octopart.com:80/rohs_statement/Fairchild-Semiconductor-company-11.pdf?src-supplier=Compliance+Statements; ComponentLink29URL: http://sigma.octopart.com:80/rohs_statement/Fairchild-Semiconductor-company-10.pdf?src-supplier=Compliance+Statements; ComponentLink29Description: http://sigma.octopart.com:80/rohs_statement/Fairchild-Semiconductor-company-10.pdf?src-supplier=Compliance+Statements; ComponentLink30URL: http://sigma.octopart.com:80/reach_statement/Fairchild-Semiconductor-company-9.pdf?src-supplier=Compliance+Statements; ComponentLink30Description: http://sigma.octopart.com:80/reach_statement/Fairchild-Semiconductor-company-9.pdf?src-supplier=Compliance+Statements; ComponentLink31URL: https://octopart.com:443/opatz8j6/c1?t=2OuS15dud8hiB_awp-DQ-07s1LQDF22Cr1fwQKtyVtUYb04vdBjUyNDKKuvr4wkdRxLtERHgqViJqWkTeNBKTdnTkVY2D1nDxfbO5h2fF1LfkcGDWl4D222U1D-tBlXhHTxouI2AVsrzVRemG0SS3H6sW1MSOkrKkFJ4G0RoiKxMnzMg8mILW7BVIW19nuoux7fwrO0RunnQ-qEWRZB9nm4RjI5EnRBraXhhg_8Jbf0Z5zDmWE4pmUtAopGBxl1lqpyawLRVoWByB2PNMH9fKF0UjTc-KtwwjIOepqcHmBTwo6_YdKVeaWahmHfZtg9hUP14M4pE3RtfggEzRX9LWEFlvFULr5TZ0fLS&src-supplier=Compliance+Statements; ComponentLink31Description: https://octopart.com:443/opatz8j6/c1?t=2OuS15dud8hiB_awp-DQ-07s1LQDF22Cr1fwQKtyVtUYb04vdBjUyNDKKuvr4wkdRxLtERHgqViJqWkTeNBKTdnTkVY2D1nDxfbO5h2fF1LfkcGDWl4D222U1D-tBlXhHTxouI2AVsrzVRemG0SS3H6sW1MSOkrKkFJ4G0RoiKxMnzMg8mILW7BVIW19nuoux7fwrO0RunnQ-qEWRZB9nm4RjI5EnRBraXhhg_8Jbf0Z5zDmWE4pmUtAopGBxl1lqpyawLRVoWByB2PNMH9fKF0UjTc-KtwwjIOepqcHmBTwo6_YdKVeaWahmHfZtg9hUP14M4pE3RtfggEzRX9LWEFlvFULr5TZ0fLS&src-supplier=Compliance+Statements; ComponentLink32URL: https://octopart.com:443/opatz8j6/c1?t=FFG_DC80JtruglX_HDP91gzsMwR13fxxkH_F3qcsgv835Sckaqh0XoMMkjr9Xm6n53vUMcFhZdRxZUaOiXKEpziVr_MHF241f_irKM6sV7CDFCSg9OIr6yiMkTD2zr6wiIa6WV_NkigJy29Fhwmg1m-UuSG1FnEbeldEUFG0L2j6ZHDzDhgkJHKMYl647Yu2VnJhiyvnXuXJW9BQy0wQcz7wOqUYovLIYLqOxKZMCY31ibnz1zvaL2IfdgsKEKbqjrdm2M9R683KWiwGreD87g6pEsuBtui6WuaAQ53GxNzJ4q_5BlDemMzchI0axU44Y1EiajOyTCBavRYBXk7g4Zi4MYonob1uQF220w&src-supplier=Compliance+Statements; ComponentLink32Description: https://octopart.com:443/opatz8j6/c1?t=FFG_DC80JtruglX_HDP91gzsMwR13fxxkH_F3qcsgv835Sckaqh0XoMMkjr9Xm6n53vUMcFhZdRxZUaOiXKEpziVr_MHF241f_irKM6sV7CDFCSg9OIr6yiMkTD2zr6wiIa6WV_NkigJy29Fhwmg1m-UuSG1FnEbeldEUFG0L2j6ZHDzDhgkJHKMYl647Yu2VnJhiyvnXuXJW9BQy0wQcz7wOqUYovLIYLqOxKZMCY31ibnz1zvaL2IfdgsKEKbqjrdm2M9R683KWiwGreD87g6pEsuBtui6WuaAQ53GxNzJ4q_5BlDemMzchI0axU44Y1EiajOyTCBavRYBXk7g4Zi4MYonob1uQF220w&src-supplier=Compliance+Statements; Supplier 1: https://www.chipdip.ru/product/fod817bsd-optoizolyator-5kv-optopara-on-semiconductor-9000101821
footprint SMD-4
pins: 1 ANODE, 2 CATHODE, 3 EMITTER, 4 COLLECTOR

## FQD12N20LTM
designator VT?
Fairchild Semiconductor’s new QFET® planar MOSFETs use advanced, proprietary technology to offer best-in-class operating performance for a wide range of applications, including power supplies, PFC (Power Factor Correction), DC-DC Converters, Plasma Display Panels (PDP), lighting ballasts, and motion control.; Continuous Drain Current Id: 9A; Rds(on) Test Voltage: 10V; Power Dissipation: 2.5W; Drain Source On State Resistance: 0.28ohm; Channel Type: N Channel; Gate Source Threshold Voltage Max: 2V; Drain Source Voltage Vds: 200V; Supplier 1: https://www.chipdip.ru/product/fqd12n20ltm-tranzistor-n-mosfet-200v-9a-on-semiconductor-9050001558
footprint DPAK3
pins: D, G, S

## HCPL2731SD
designator D?
Оптоизолятор 2.5кВ двухканальный с транзистором Дарлингтона 8SMD; Output Current: 60 mA; Vf - Forward Voltage: 1.3 V; Vr - Reverse Voltage: 5 V; If - Forward Current: 1.6 mA; Supplier 1: https://www.chipdip.ru/product/hcpl2731sd-on-semiconductor-8031911084; Maximum Operating Temperature: 100 C; Minimum Operating Temperature: -40 C
footprint SMD-8
pins: 1 VF1+, 2 VF1-, 3 VF2-, 4 VF2+, 5 GND, 6 V02, 7 V01, 8 VCC

## IR2109STRPBF
designator D?
Драйвер полумостовой; Operating Supply Current: 1.6 mA; Output Current: 120 mA; Output Voltage -Min: 10 V; Output Voltage - Max: 20 V; Power: 625mW; Supplier 1: https://www.chipdip.ru/product/ir2109strpbf-infineon-8012901923; Supply Voltage -Min: 10 V; Supply Voltage -Max: 20 V; Operating temperature: -40…125°C
footprint SOIC-8
pins: 1 VCC (power), 2 IN, 3 ~{SD}, 4 COM, 5 LO, 6 VS, 7 HO, 8 VB

## JRB1E102M05001000210000B
designator C?, comment CAP-1000мкФ-20%-25В-105°C-Radial
1000мкФ, 25В, 105°C, 20%, 10x21мм P:5мм, JRB1E102M05001000210000B (К50-35 имп.), Конденсатор электролитический алюминиевый; Value: 1000мкФ; Tolerance: 20%; Voltage: 25В; Manufacturer Part Number: JRB1E102M05001000210000B; Supplier 1: https://www.chipdip.ru/product/1000mkf-25v-105-c-20-10x21mm-p-5mm-jb-capacitors-9000565924; Temperature: 105°C
footprint CAP_RADIAL_10x20_P5
pins: N, P
text: +

## JRB2A101M05001000200000B
designator C?, comment CAP-100мкФ-20%-100В-105°C-Radial
100мкФ, 100В, 105°C, 20%, 10x20мм P:5мм, JRB2A101M05001000200000B (К50-35 имп.), Конденсатор электролитический алюминиевый; Value: 100мкФ; Tolerance: 20%; Voltage: 100В; Manufacturer Part Number: JRB2A101M05001000200000B; Supplier 1: https://www.chipdip.ru/product/100mkf-100v-105-c-20-10x20mm-p-5mm-jb-capacitors-9000565887; Temperature: 105°C
footprint CAP_RADIAL_10x20_P5
pins: N, P
text: +

## JRB2D101M05001300250000B
designator C?, comment CAP-100мкФ-20%-200В-105°C-Radial
100мкФ, 200В, 105°C, 20%, 13x25мм P:5мм, JRB2D101M05001300250000B (К50-35 имп.), Конденсатор электролитический алюминиевый; Supplier 1: https://www.chipdip.ru/product/100mkf-200v-105-c-20-13x25mm-p-5mm-jb-capacitors-9000565896; Tolerance: 20%; Voltage: 200В; Manufacturer Part Number: JRB2D101M05001300250000B; Value: 100мкФ; Temperature: 105°C
footprint CAP_RADIAL_13x17_P5
pins: N, P
text: +

## JRB2E100M05001000170000B
designator C?, comment CAP-10мкФ-20%-250В-105°C-Radial
10мкФ, 250В, 105°C, 20%, 10x17мм P:5мм, JRB2E100M05001000170000B (К50-35 имп.), Конденсатор электролитический алюминиевый; Supplier 1: https://www.chipdip.ru/product/10mkf-250v-105-c-20-10x17mm-p-5mm-jb-capacitors-9000565843; Tolerance: 20%; Value: 10мкФ; Manufacturer Part Number: JRB2E100M05001000170000B; Voltage: 250В; Temperature: 105°C
footprint CAP_RADIAL_10x20_P5
pins: N, P
text: +

## LED 0805
designator VD?
LED SMD 0805; Part Number: *; Supplier 1: *
footprint LED 0805
pins: 1 A, 2 C

## LM2575HVR-5
designator DD?
LM2575HVR-5.0, Понижающий DC-DC преобразователь, Uвх=до 60В, Uвых=+5В, 1А, 52кГц [TO-263-5L] (=LM2575HVS-5.0); Supplier 1: https://www.chipdip.ru/product/lm2575hvr-5.0-ponizhayuschiy-dc-dc-preobrazovatel-htc-9001087019
footprint TO-263-5
pins: 1 VIN, 2 VOUT, 3 GND, 4 FB, 5 ON/OFF, PAD

## LM2575HVR-12
designator DD?
LM2575HVR-12, Понижающий DC-DC преобразователь, Uвх=до 60В, Uвых=+12В, 1А, 52кГц [TO-263-5L] (=LM2575HVS-12); Supplier 1: https://www.chipdip.ru/product/lm2575hvr-12-ponizhayuschiy-dc-dc-preobrazovatel-uvh-do-htc-9001087020
footprint TO-263-5
pins: 1 VIN, 2 VOUT, 3 GND, 4 FB, 5 ON/OFF, PAD

## LM2575HVS-3.3
designator DD?
LM2575HVS-3.3, Понижающий DC-DC преобразователь, Uвх=до 60В, Uвых=3.3В, 1А, 52кГц [TO-263-5L]; Supplier 1: https://www.chipdip.ru/product/lm2575hvs-3.3-ponizhayuschiy-dc-dc-preobrazovatel-umw-9001231209
footprint TO-263-5
pins: 1 VIN, 2 VOUT, 3 GND, 4 FB, 5 ON/OFF, PAD

## R24-150B
designator DD?
5W DC/DC-Converter 'INNOLINE' DIP24 3kV reg; V. In: 24; V. Out: 159; mA. Out: 50; Manufacturer: Recom Power; Current - Output 1: 50mA; Efficiency: 82%; Isolation: Isolated; Max Input Voltage: 27V; Max Output Voltage: 200V; Min Input Voltage: 21V; Min Output Voltage: 92V; Nominal Input Voltage: 15V; Nominal Output Voltage: 159V; Number of Circuits: 1; Voltage - Output 1: 210V; Supplier: RS; Manufacturer Part Number: R24-150B; RoHS: Compliant; Category: Board Mount Modules; Stock 1: 51; Pricing 1: 1=53,21, 5=51,62, 10=50,02, 25=48,43, 50=46,82 (EUR); Case/Package: DIP; Country of Origin: Mainland China, Taiwan; Depth: 31.8mm; Export Control Classification Number (ECCN) Code: EAR99; Features: SCP; Height: 9.4mm; Height - Seated (Max): 9.9mm; Introduction Date: 2011-08-17; Isolation Voltage: 3kV; Lead Free: Lead Free; Length: 31.8mm; Lifecycle Status: Production; Max Input Voltage (DC): 27V; Max Operating Temperature: 70°C; Max Output Current: 50mA; Max Output Power: 5W; Max Power Dissipation: 5W; Min Input Voltage (DC): 21V; Min Operating Temperature: -40°C; Mount: Through Hole; Number of Outputs: 1; Number of Pins: 12; Number of Terminals: 12; Output Current: 50mA; Output Power: 5W; Output Voltage: 92V; REACH SVHC: Yes; Schedule B: 8504409580, 8504409580|8504409580|8504409580|8504409580|8504409580|8504409580|8504409580|8504409580|8504409580|8504409580|8504409580|8504409580|8504409580|8504409580|8504409580|8504409580|8504409580|8504409580|8504409580|8504409580|8504409580|8504409580|8504409580|85; Terminal Pitch: 2.54mm; Weight: 12g; Width: 20.3mm; ComponentLink1URL: https://datasheet.octopart.com:443/R24-150B-Recom-Power-datasheet-154841544.pdf?src-supplier=Electro+Sonic; ComponentLink1Description: https://datasheet.octopart.com:443/R24-150B-Recom-Power-datasheet-154841544.pdf?src-supplier=Electro+Sonic; ComponentLink2URL: https://datasheet.octopart.com:443/R24-150B-Recom-Power-datasheet-133924178.pdf?src-supplier=Electro+Sonic; ComponentLink2Description: https://datasheet.octopart.com:443/R24-150B-Recom-Power-datasheet-133924178.pdf?src-supplier=Electro+Sonic; ComponentLink3URL: https://datasheet.octopart.com:443/R24-150B-Recom-Power-datasheet-47094921.pdf?src-supplier=Future+Electronics; ComponentLink3Description: https://datasheet.octopart.com:443/R24-150B-Recom-Power-datasheet-47094921.pdf?src-supplier=Future+Electronics; ComponentLink4URL: https://datasheet.octopart.com:443/R24-150B-Recom-Power-datasheet-12957750.pdf?src-supplier=Future+Electronics; ComponentLink4Description: https://datasheet.octopart.com:443/R24-150B-Recom-Power-datasheet-12957750.pdf?src-supplier=Future+Electronics; ComponentLink5URL: https://datasheet.octopart.com:443/R24-150B-Recom-Power-datasheet-68298689.pdf?src-supplier=Burklin+Elektronik; ComponentLink5Description: https://datasheet.octopart.com:443/R24-150B-Recom-Power-datasheet-68298689.pdf?src-supplier=Burklin+Elektronik; ComponentLink6URL: https://datasheet.octopart.com:443/R24-150B-Recom-Power-datasheet-27908020.pdf?src-supplier=Newark; ComponentLink6Description: https://datasheet.octopart.com:443/R24-150B-Recom-Power-datasheet-27908020.pdf?src-supplier=Newark; ComponentLink7URL: https://datasheet.octopart.com:443/R24-150B-Recom-Power-datasheet-165581945.pdf?src-supplier=TME; ComponentLink7Description: https://datasheet.octopart.com:443/R24-150B-Recom-Power-datasheet-165581945.pdf?src-supplier=TME; Supplier 1: https://www.chipdip.ru/product/r24-150b-dc-dc-converters-through-hole-5w-24v-3kv-recom-8004741174; Supplier Part Number 1: 7331121
footprint DIP-24
pins: 2 -VIN, 3 -VIN, 8 VADJ, 9 VREF, 10 -VOUT, 12 +VOUT, 13 +VOUT, 15 -VOUT, 16 VREF, 17 VADJ, 22 +VIN, 23 +VIN

## SDR0805-331KL
designator L?
330мкГн, 0.4А, Индуктивность SMD; Inductance: 300мкГн; Current - Saturation (Isat): 580 mA; Current Rating (Amps): 400 mA; Supplier 1: https://www.chipdip.ru/product/sdr0805-331kl-330mkgn-0.4a-induktivnost-smd-bourns-9000090969
footprint IND_7.8X7.8
pins: 1, 2

## SM712.TCT
designator V?
SM Series 12 V 400 W Asymmetrical TVS Diode for Extended Common-Mode - SOT-23; Manufacturer: Semtech; Direction: Bidirectional; Number of Elements: 2; Reverse Breakdown Voltage: 13.3V; Reverse Standoff Voltage: 12V; Min Breakdown Voltage: 7.5V; Clamping Voltage: 26V; Peak Pulse Power: 400W; Power Line Protection: No; Leakage Current: 1uA; Peak Pulse Current: 17A; Test Current: 1mA; ESD Protection: Yes; Max Reverse Leakage Current: 20uA; Diode Type: ZENER; Number of Channels: 2NUMBER; Supplier: Rs; Supplier Part Number: 6910811P; Manufacturer Part Number: SM712.TCT; RoHS: Yes; Category: TVS Diodes; Stock: 2025; Pricing: 25=0,92, 50=0,82, 125=0,726, 250=0,712 (GBP); Mounting Technology: Surface Mount; Case/Package: SOT-23; Pins: 3; Min Operating Temperature: -55°C; Max Operating Temperature: 125°C; Packaging: Tape and Reel; Number of Bidirectional Channels: 2; Power Dissipation: 400W; Polarity: Bidirectional; Working Voltage: 12V; Max Breakdown Voltage: 13.3V; Max Power Dissipation: 400W; Voltage Rating (DC): 12V; Series: -; Clamping Voltage-Max: 12V; Breakdown Voltage: 13.3V; Length: 2.9mm; Width: 1.3mm; Height: 0.95mm; Depth: 1.3mm; Radiation Hardening: No; Reach SVHC Compliant: No; Lead Free: Lead Free; RoHS Compliant: Yes; ComponentLink1URL: https://datasheet.ciiva.com/16393/sm712-16393584.pdf?src-supplier=Future+Electronics; ComponentLink1Description: https://datasheet.ciiva.com/16393/sm712-16393584.pdf?src-supplier=Future+Electronics; ComponentLink2URL: https://datasheet.ciiva.com/18065/getdatasheetpartid-110620-18065348.pdf?src-supplier=Verical; ComponentLink2Description: https://datasheet.ciiva.com/18065/getdatasheetpartid-110620-18065348.pdf?src-supplier=Verical; ComponentLink3URL: https://datasheet.ciiva.com/5748/579001-5748455.pdf?src-supplier=Farnell; ComponentLink3Description: https://datasheet.ciiva.com/5748/579001-5748455.pdf?src-supplier=Farnell; ComponentLink4URL: https://datasheet.ciiva.com/8029/579001-8029931.pdf?src-supplier=Element14; ComponentLink4Description: https://datasheet.ciiva.com/8029/579001-8029931.pdf?src-supplier=Element14; ComponentLink5URL: https://datasheet.ciiva.com/339/sm712-339089.pdf?src-supplier=Digikey; ComponentLink5Description: https://datasheet.ciiva.com/339/sm712-339089.pdf?src-supplier=Digikey; ComponentLink6URL: https://datasheet.ciiva.com/339/sm712-339090.pdf?src-supplier=Digikey; ComponentLink6Description: https://datasheet.ciiva.com/339/sm712-339090.pdf?src-supplier=Digikey; ComponentLink7URL: https://datasheet.ciiva.com/339/sm712-339091.pdf?src-supplier=Digikey; ComponentLink7Description: https://datasheet.ciiva.com/339/sm712-339091.pdf?src-supplier=Digikey; Supplier 1: https://www.chipdip.ru/product/sm712.tct
footprint SOT-23
pins: 1, 2, 3

## SMAJ12CA
designator VD?
Диод защитный от перенапряжения - TVS (супрессор) 12В включение 19.9В ограничение SMA; Maximum Clamping Voltage (V): 25.3 V; Maximum Peak Pulse Current (A): 91 A; Minimum Breakdown Voltage (V): 13.3 V; Breakdown Voltage: 14 V; Supplier 1: https://www.chipdip.ru/product/smaj12ca-tr-st-microelectronics-8124212433
footprint DO-214AC
pins: A, C

## SMBJ36A
designator VD?
SMBJ36A, Защитный диод 600Вт 36В [SMB / DO-214AA]; Supplier 1: https://www.chipdip.ru/product/smbj36a-zaschitnyy-diod-600vt-36v-smb-do-214aa-umw-9001169227
footprint DO-214AA
pins: A, C